# Altium footprint library ZM47 Family.PcbLib: 3 footprints
Each footprint in its own frame and in the unit in brackets; x right, y up, seen from the top. Pads: shape width x height; smd on the part's side, far side on the other; paste and mask are expansions set on the pad; w line width, h text height; cw(c..) or ccw(c..) is an arc to the next point about the centre after c.
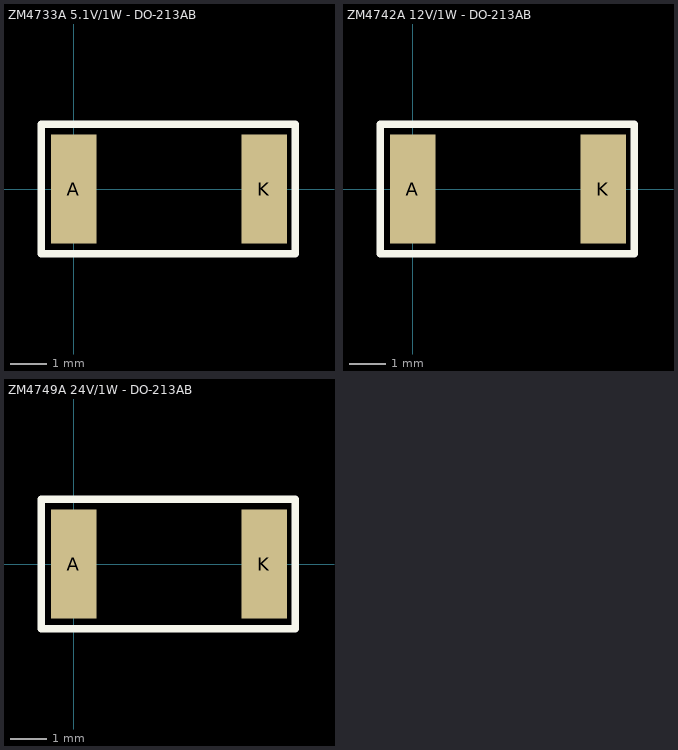
[diagram p0: the footprints below, top view; thin cyan lines are the x and y axes]

## ZM4733A 5.1V/1W - DO-213AB [mm] "Zener Diode 5.1V 1W ±5% Surface Mount DO-213AB"
pads (2):
  rect 1.25x3 smd: A(0,0) K(5.25,0)
Top Overlay:
  lines w0.2: -0.889,-1.778 -0.889,1.778 6.096,1.778 6.096,-1.778 -0.889,-1.778
3D body "MELF - DO-213AB.step": height 2.55, standoff -0.01, extent 0.207,-1.3 5.033,1.265

## ZM4742A 12V/1W - DO-213AB [mm] "Zener Diode 12V 1W ±5% Surface Mount DO-213AB"
pads (2):
  rect 1.25x3 smd: A(0,0) K(5.25,0)
Top Overlay:
  lines w0.2: -0.889,-1.778 -0.889,1.778 6.096,1.778 6.096,-1.778 -0.889,-1.778
3D body "MELF - DO-213AB.step": height 2.55, standoff -0.01, extent 0.207,-1.3 5.033,1.265

## ZM4749A 24V/1W - DO-213AB [mm] "Zener Diode 24V 1W ±5% Surface Mount DO-213AB"
pads (2):
  rect 1.25x3 smd: A(0,0) K(5.25,0)
Top Overlay:
  lines w0.2: -0.889,-1.778 -0.889,1.778 6.096,1.778 6.096,-1.778 -0.889,-1.778
3D body "MELF - DO-213AB.step": height 2.55, standoff -0.01, extent 0.207,-1.3 5.033,1.265